# Altium schematic symbol library VERSA-PAC.SchLib: 2 symbols
Pins are listed as number, name and electrical type; pins without a type are passive.

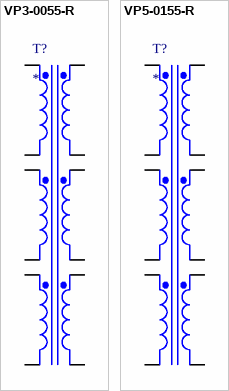
[diagram p0: symbols VP3-0055-R to VP5-0155-R]

## VP3-0055-R
designator T?
VERSA-PAC® Inductors and Transformers (Surface Mount)
footprint VP3 (VERSA-PAC? Inductors and Transformers (Surface Mount))
pins: 1 Wind, 2 Winding2+, 3 Winding3+, 4 Winding4+, 5 Winding5+, 6 Winding6+, 7 Winding6-, 8 Winding5-, 9 Winding4-, 10 Winding3-, 11 Winding2-, 12 Winding1-

## VP5-0155-R
designator T?
VERSA-PAC® Inductors and Transformers (Surface Mount)
footprint VP5 (VERSA-PAC? Inductors and Transformers (Surface Mount))
pins: 1 Wind, 2 Winding2+, 3 Winding3+, 4 Winding4+, 5 Winding5+, 6 Winding6+, 7 Winding6-, 8 Winding5-, 9 Winding4-, 10 Winding3-, 11 Winding2-, 12 Winding1-